# Altium schematic symbol library 1N5819HW-7-F.SchLib: 2 symbols
Pins are listed as number, name and electrical type; pins without a type are passive.

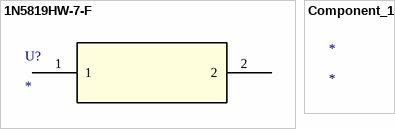
[diagram p0: symbols 1N5819HW-7-F to Component_1]

## 1N5819HW-7-F
designator U?
No Description Available; Mfr_Name: Diodes Inc; RefDes: RefDes; Type: Type
footprint 1N5819HW-7-F_DIO
pins: 1, 2

## Component_1
designator *